# EAGLE library part GNDOP_7 (library macros)
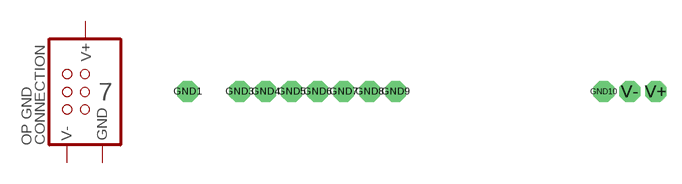
[diagram p8: symbol with the pads of GNDOP_7; footprint GNDOP_7]

Designator prefix $

## GNDOP_7  [GNDOP_7]
GND1  GND  pwr
GND3  GND  pwr
GND4  GND  pwr
GND5  GND  pwr
GND6  GND  pwr
GND7  GND  pwr
GND8  GND  pwr
GND9  GND  pwr
GND10  GND  pwr
V+  V+  pwr
V-  V-  pwr

## Footprint GNDOP_7 (pad centres in mm)
drill 0.813 pad 2.032 octagon: GND1 0,0; GND3 5.08,0; GND4 7.62,0; GND5 10.16,0; GND6 12.7,0; GND7 15.24,0; GND8 17.78,0; GND9 20.32,0; GND10 40.64,0; V+ 45.72,0; V- 43.18,0